# Altium schematic symbol library lib_vishay.SchLib: 11 symbols
Pins are listed as number, name and electrical type; pins without a type are passive.

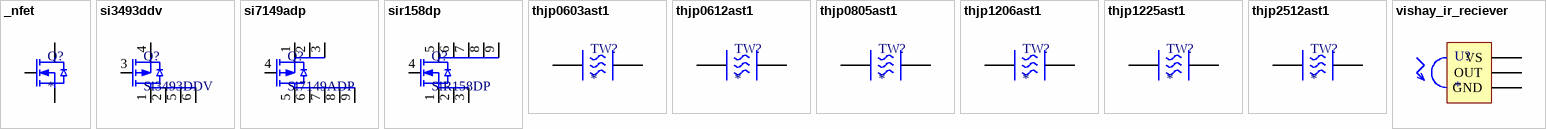
[diagram p0: symbols _nfet to vishay_ir_reciever]

## _nfet
designator Q?
N-channel MOSFET
pins: D, G, S

## si3493ddv
designator Q?, comment Si3493DDV
P-Channel 20 V (D-S) MOSFET; ComponentLink1Description: datasheet; ComponentLink1URL: http://www.vishay.com/docs/62839/si7149adp.pdf
footprint SOT95P284X110-6N_TSOP6 (SOT23, 6-Leads, Body 3.03x2.84mm, Pitch 0.95mm, IPC Medium Density)
pins: 1 D, 2 D, 3 G, 4 S, 5 D, 6 D

## si7149adp
designator Q?, comment Si7149ADP
P-Channel 30 V (D-S) MOSFET; ComponentLink1Description: datasheet; ComponentLink1URL: http://www.vishay.com/docs/62839/si7149adp.pdf
footprint SON127P620X112_HS-9N_POWERPAK_SO8 (SON, 8-Leads, Body 5.15x6.15mm, Pitch 1.27mm, Thermal Pad 3.98x1.50mm, IPC Medium Density)
pins: 1 S, 2 S, 3 S, 4 G, 5 D, 6 D, 7 D, 8 D, 9 D

## sir158dp
designator Q?, comment SiR158DP
N-Channel 30 V (D-S) MOSFET; ComponentLink1Description: datasheet; ComponentLink1URL: https://www.vishay.com/docs/64730/sir158dp.pdf
footprint SON127P620X112_HS-9N_POWERPAK_SO8 (SON, 8-Leads, Body 5.15x6.15mm, Pitch 1.27mm, Thermal Pad 3.98x1.50mm, IPC Medium Density)
pins: 1 S, 2 S, 3 S, 4 G, 5 D, 6 D, 7 D, 8 D, 9 D

## thjp0603ast1
designator TW?
ThermaWick Thermal Jumper Surface Mount Chip; Supplier 1: Digi-Key; Supplier Part Number 1: 764-THJP0603AST1CT-ND
footprint THJP0603AST1 (Chip Inductor, 2-Leads, Body 1.55x0.84mm, IPC Medium Density)
pins: 1, 2

## thjp0612ast1
designator TW?
ThermaWick Thermal Jumper Surface Mount Chip; Supplier 1: Digi-Key; Supplier Part Number 1: 764-THJP0612AST1CT-ND
footprint THJP0612AST1 (Chip Inductor, 2-Leads, Body 1.60x3.20mm, IPC Medium Density)
pins: 1, 2

## thjp0805ast1
designator TW?
ThermaWick Thermal Jumper Surface Mount Chip; Supplier 1: Digi-Key; Supplier Part Number 1: 764-THJP0805AST1CT-ND
footprint THJP0805AST1 (Chip Inductor, 2-Leads, Body 2.01x1.22mm, IPC Medium Density)
pins: 1, 2

## thjp1206ast1
designator TW?
ThermaWick Thermal Jumper Surface Mount Chip; Supplier 1: Digi-Key; Supplier Part Number 1: 764-THJP1206AST1CT-ND
footprint THJP1206AST1 (Chip Inductor, 2-Leads, Body 3.20x1.60mm, IPC Medium Density)
pins: 1, 2

## thjp1225ast1
designator TW?
ThermaWick Thermal Jumper Surface Mount Chip; Supplier 1: Digi-Key; Supplier Part Number 1: 764-THJP1225AST1CT-ND
footprint THJP1225AST1 (Chip Inductor, 2-Leads, Body 3.20x6.40mm, IPC Medium Density)
pins: 1, 2

## thjp2512ast1
designator TW?
ThermaWick Thermal Jumper Surface Mount Chip; Supplier 1: Digi-Key; Supplier Part Number 1: 764-THJP2512AST1CT-ND
footprint THJP2512AST1 (Chip Inductor, 2-Leads, Body 6.40x3.20mm, IPC Medium Density)
pins: 1, 2

## vishay_ir_reciever
designator U?
footprint tsop75xxx (TSOP75XXXX(W))
pins: GND (power), OUT (oc), VS (power)